# Altium footprint library SOIC_127P_N.PcbLib: 49 footprints (part 4 of 4)
Each footprint in its own frame and in the unit in brackets; x right, y up, seen from the top. Pads: shape width x height; smd on the part's side, far side on the other; paste and mask are expansions set on the pad; w line width, h text height; cw(c..) or ccw(c..) is an arc to the next point about the centre after c.
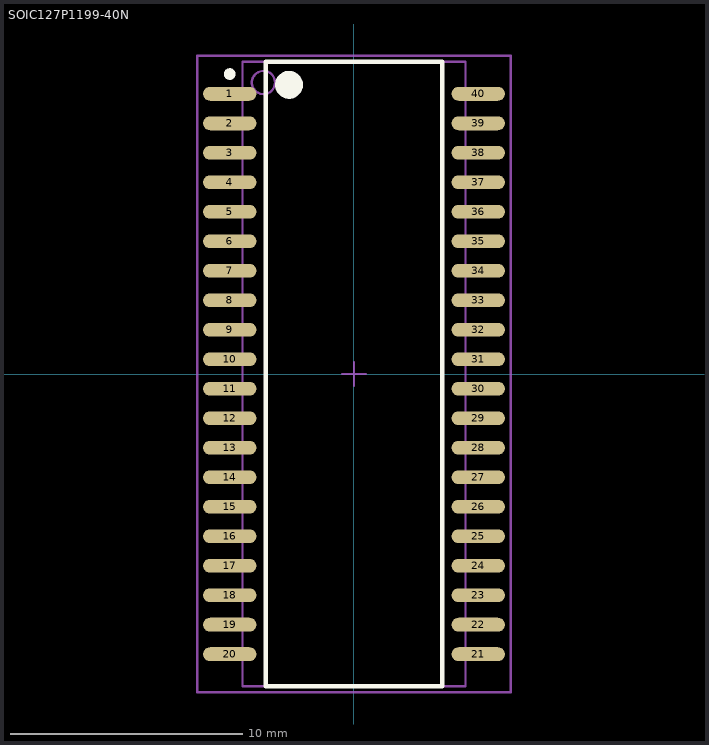
[diagram p3: the footprint, top view; thin cyan lines are the x and y axes]

## SOIC127P1199-40N [mm] "SOIC, 40-Leads, Body 26.6x9.4mm, Pitch 1.27mm, IPC Medium Density"
height 2.7
pads (40):
  oval 2.3x0.6 smd: 1(-5.35,12.065) 2(-5.35,10.795) 3(-5.35,9.525) 4(-5.35,8.255) 5(-5.35,6.985) 6(-5.35,5.715) 7(-5.35,4.445) 8(-5.35,3.175) 9(-5.35,1.905) 10(-5.35,0.635) 11(-5.35,-0.635) 12(-5.35,-1.905) 13(-5.35,-3.175) 14(-5.35,-4.445) 15(-5.35,-5.715) 16(-5.35,-6.985) 17(-5.35,-8.255) 18(-5.35,-9.525) 19(-5.35,-10.795) 20(-5.35,-12.065) 21(5.35,-12.065) 22(5.35,-10.795) 23(5.35,-9.525) 24(5.35,-8.255) 25(5.35,-6.985) 26(5.35,-5.715) 27(5.35,-4.445) 28(5.35,-3.175) 29(5.35,-1.905) 30(5.35,-0.635) 31(5.35,0.635) 32(5.35,1.905) 33(5.35,3.175) 34(5.35,4.445) 35(5.35,5.715) 36(5.35,6.985) 37(5.35,8.255) 38(5.35,9.525) 39(5.35,10.795) 40(5.35,12.065)
Top Overlay:
  circle w0.6: c-2.8,12.45 r0.3
  circle w0.25: c-5.35,12.915 r0.125
  lines w0.2: -3.8,-13.45 3.8,-13.45 3.8,13.45 -3.8,13.45 -3.8,-13.45
Mechanical 13:
  circle w0.1: c-3.9,12.55 r0.5
  lines w0.1: -4.8,-13.45 4.8,-13.45 4.8,13.45 -4.8,13.45 -4.8,-13.45
Mechanical 15:
  lines w0.1: -0.5,0 0.5,0 ; 0,-0.5 0,0.5 ; -6.75,-13.7 6.75,-13.7 6.75,13.7 -6.75,13.7 -6.75,-13.7
3D body: height 2.7, standoff 0, extent -4.8,-13.45 4.8,13.45